# EAGLE library part LTC3407 (library Traficon)
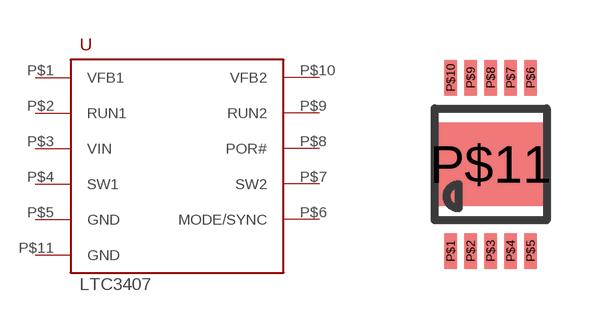
[diagram p166: symbol with the pads of MSE10; footprint MSE10]

Designator prefix U

## LTC3407  [MSE10]
P$1  VFB1
P$2  RUN1
P$3  VIN
P$4  SW1
P$5  GND
P$6  MODE/SYNC
P$7  SW2
P$8  POR#
P$9  RUN2
P$10  VFB2
P$11  GND

## Footprint MSE10 (pad centres in mm)
smd 0.305 x 0.889: P$1 -1,-2.171; P$2 -0.5,-2.171; P$3 0,-2.171; P$4 0.5,-2.171; P$5 1,-2.171; P$6 1,2.171; P$7 0.5,2.171; P$8 0,2.171; P$9 -0.5,2.171; P$10 -1,2.171
smd 2.794 x 2.083: P$11 0,0